# EAGLE library part ALLEGRO-A3921 (library Other)
Allegro A3921 Automotive Full Bridge Mosfet Driver
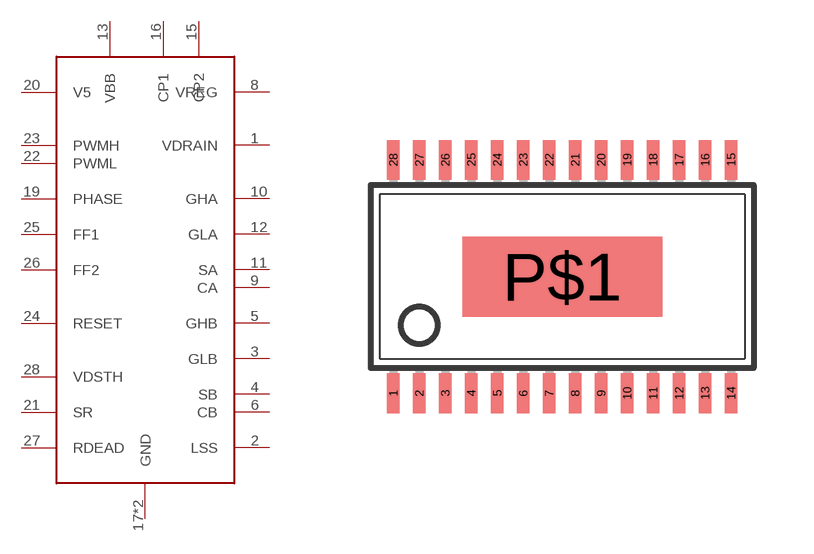
[diagram p0: symbol with the pads of TSSOP28; footprint TSSOP28]

Designator prefix ALLGR

## ALLEGRO-A3921  [TSSOP28]
1  VDRAIN
2  LSS
3  GLB
4  SB
5  GHB
6  CB
8  VREG
9  CA
10  GHA
11  SA
12  GLA
13  VBB
15  CP2
16  CP1
17  GND
19  PHASE
20  V5
21  SR
22  PWML
23  PWMH
24  RESET
25  FF1
26  FF2
27  RDEAD
28  VDSTH
P$1  GND

## Footprint TSSOP28 (pad centres in mm)
Thin Shrink Small Outline Plastic 28 MAX3223-MAX3243.pdf
smd 0.305 x 0.991: 1 -4.225,-2.918; 2 -3.575,-2.918; 3 -2.925,-2.918; 4 -2.275,-2.918; 5 -1.625,-2.918; 6 -0.975,-2.918; 7 -0.325,-2.918; 8 0.325,-2.918; 9 0.975,-2.918; 10 1.625,-2.918; 11 2.275,-2.918; 12 2.925,-2.918; 13 3.575,-2.918; 14 4.225,-2.918; 15 4.225,2.918; 16 3.575,2.918; 17 2.925,2.918; 18 2.275,2.918; 19 1.625,2.918; 20 0.975,2.918; 21 0.325,2.918; 22 -0.325,2.918; 23 -0.975,2.918; 24 -1.625,2.918; 25 -2.275,2.918; 26 -2.925,2.918; 27 -3.575,2.918; 28 -4.225,2.918
smd 5 x 2: P$1 0,0